# EAGLE library part SN74ACT244 (library SN74ACT244)
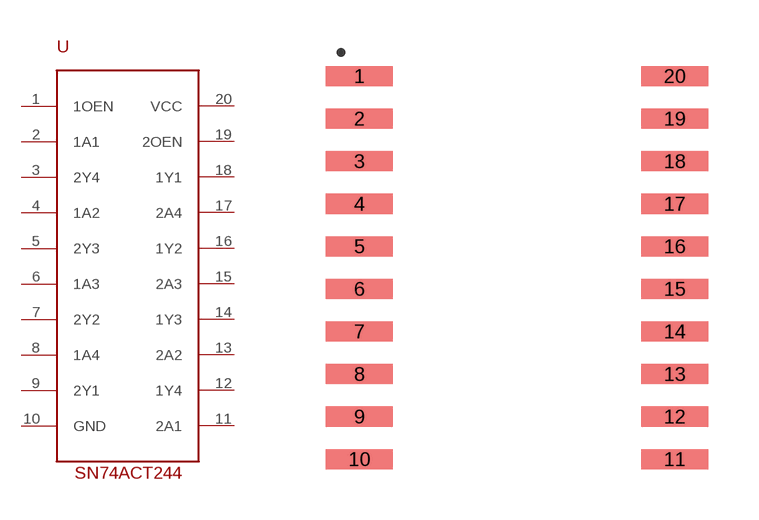
[diagram p0: symbol with the pads of 20-SOIC; footprint 20-SOIC]

Designator prefix -

## SN74ACT244  [20-SOIC]
1  1OEN
2  1A1
3  2Y4
4  1A2
5  2Y3
6  1A3
7  2Y2
8  1A4
9  2Y1
10  GND
11  2A1
12  1Y4
13  2A2
14  1Y3
15  2A3
16  1Y2
17  2A4
18  1Y1
19  2OEN
20  VCC

## Footprint 20-SOIC (pad centres in mm)
smd 2 x 0.6: 1 -4.7,5.75; 2 -4.7,4.48; 3 -4.7,3.21; 4 -4.7,1.94; 5 -4.7,0.67; 6 -4.7,-0.6; 7 -4.7,-1.87; 8 -4.7,-3.14; 9 -4.7,-4.41; 10 -4.7,-5.68; 11 4.7,-5.68; 12 4.7,-4.41; 13 4.7,-3.14; 14 4.7,-1.87; 15 4.7,-0.6; 16 4.7,0.67; 17 4.7,1.94; 18 4.7,3.21; 19 4.7,4.48; 20 4.7,5.75